# Altium schematic symbol library Intelligent_Agriculture_1.SCHLIB: 23 symbols
Pins are listed as number, name and electrical type; pins without a type are passive.

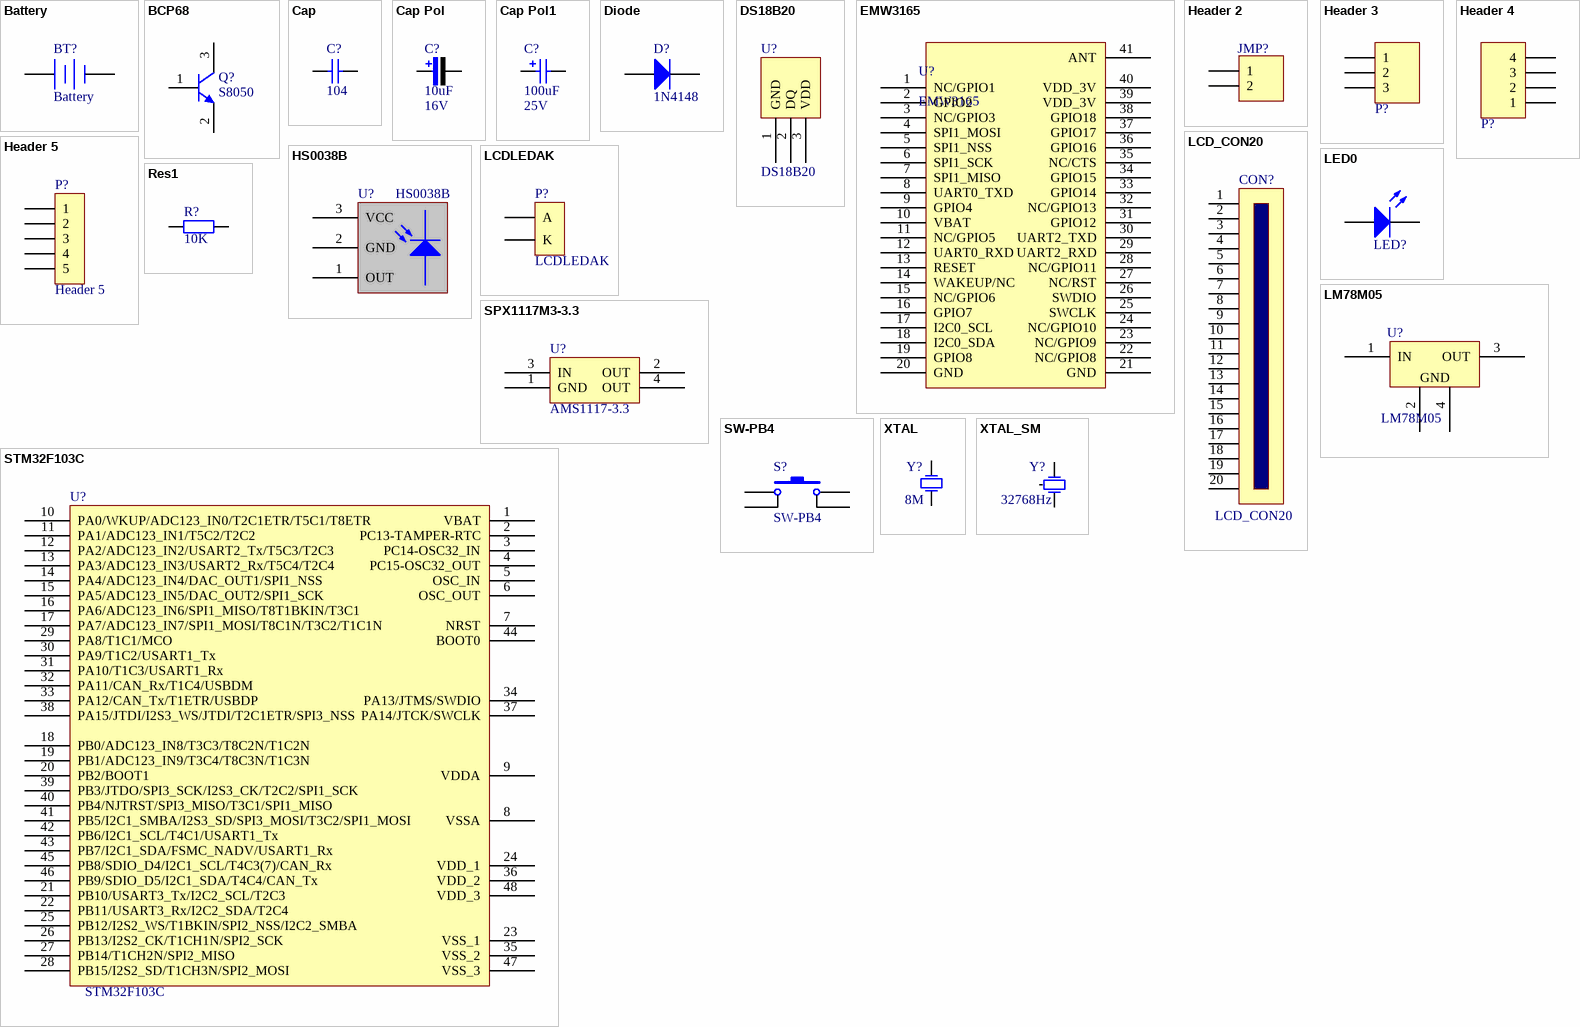
[diagram p0: symbols Battery to XTAL_SM]

## Battery
designator BT?
备份电池; Value: CR1220电池座(贴片); Published: 24-Mar-1999; LatestRevisionDate: 17-Jul-2002; LatestRevisionNote: Re-released for DXP Platform.; PackageReference: BAT-2; Publisher: Altium Limited
footprint CR1220 (钮扣电池)
pins: 1 +, 2 -

## BCP68
designator Q?, comment S8050
NPN三极管; Published: 17-Sep-2003; LatestRevisionDate: 12-Dec-2006; LatestRevisionNote: IPC-7351 Footprint Added.; DatasheetVersion: 8-Apr-1999; PackageVersion: Aug-2001; PackageReference: SOT223; Publisher: Altium Limited; PackageDescription: 4-Pin SOT-223 Package 2.3 mm Pitch, 7 mm Lead Span; ComponentLink1Description: Manufacturer Link; ComponentLink1URL: http://www.semiconductors.philips.com/; ComponentLink2Description: Datasheet; ComponentLink2URL: http://www.semiconductors.philips.com/acrobat/datasheets/BCP68_4.pdf; Value: S8050
footprint SOT-23 (普通?)
pins: 1 B, 2 E, 3 C

## Cap
designator C?  value 104  (hidden comment: Cap)
无极性电容; Published: 8-Jun-2000; LatestRevisionDate: 17-Jul-2002; LatestRevisionNote: Re-released for DXP Platform.; PackageReference: RAD-0.3; Publisher: Altium Limited
footprint C-RAD (瓷片电容)
footprint C-RAD-0805 (贴片电容)
footprint C-RAD-0603 (贴片电容)
footprint 0603-2 (贴片无丝印)
footprint 0805-2 (贴片无丝印)
footprint C-RAD-3528 (贴片电容)
pins: 1, 2

## Cap Pol
designator C?  value 10uF  Vol: 16V  (hidden comment: Cap Pol)
钽电容; Published: 8-Jun-2000; LatestRevisionDate: 17-Jul-2002; LatestRevisionNote: Re-released for DXP Platform.; PackageReference: RB7.6-15; Publisher: Altium Limited
footprint CAP-7343 (钽电容)
footprint CAP-3528 (钽电容)
footprint CAP-3216 (钽电容)
footprint C-RB-S10 (贴片电解)
footprint C-RB-S6 (贴片电解)
footprint CAP-6032 (钽电容)
footprint C-RB-10 (35V470uF电容)
footprint C-RB-18 (35V2200uF电容)
footprint C-RB-8 (35V 220UF电容)
footprint C-RB-12 (35V470uF电容)
footprint C-RB-S8 (贴片电解)
pins: 1, 2
1 alternate drawing of the same symbol

## Cap Pol1
designator C?  value 100uF  Vol: 25V  (hidden comment: Cap Pol1)
电解电容; Published: 8-Jun-2000; LatestRevisionDate: 17-Jul-2002; LatestRevisionNote: Re-released for DXP Platform.; PackageReference: RB7.6-15; Publisher: Altium Limited; PackageDescription: Polarized Capacitor (Radial); 2 Leads
footprint RB7.6-15 (Polarized Capacitor (Radial); 2 Leads)
footprint C-RB-2.54
pins: 1, 2
1 alternate drawing of the same symbol

## Diode
designator D?  value 1N4148  (hidden comment: Diode)
二极管; Published: 8-Jun-2000; LatestRevisionDate: 17-Jul-2002; LatestRevisionNote: Re-released for DXP Platform.; PackageDocument: Sep-1996; PackageReference: SMC; Publisher: Altium Limited; Code_JEDEC: DO-214-AB
footprint DIODE-AXL (直插二极管)
footprint DIODE-1206 (玻璃封装二极管)
footprint DIODE-SMA (贴片二)
pins: 1 A, 2 K

## DS18B20
designator U?
温度传感器; Value: DS18B20
footprint TO-92A (直插三极管)
footprint HDR3X1_A (Connector; Header; 3 Position)
footprint HDR3X1_B1 (Connector; Header; 3 Position)
pins: 1 GND, 2 DQ, 3 VDD

## EMW3165
designator U?
WIFI 模块
footprint EMW3165 (EMW365 wifi 模块)
pins: 1 NC/GPIO1, 2 GPIO2, 3 NC/GPIO3, 4 SPI1_MOSI, 5 SPI1_NSS, 6 SPI1_SCK, 7 SPI1_MISO, 8 UART0_TXD, 9 GPIO4, 10 VBAT, 11 NC/GPIO5, 12 UART0_RXD, 13 RESET, 14 WAKEUP/NC, 15 NC/GPIO6, 16 GPIO7, 17 I2C0_SCL, 18 I2C0_SDA, 19 GPIO8, 20 GND, 21 GND, 22 NC/GPIO8, 23 NC/GPIO9, 24 NC/GPIO10, 25 SWCLK, 26 SWDIO, 27 NC/RST, 28 NC/GPIO11, 29 UART2_RXD, 30 UART2_TXD, 31 GPIO12, 32 NC/GPIO13, 33 GPIO14, 34 GPIO15, 35 NC/CTS, 36 GPIO16, 37 GPIO17, 38 GPIO18, 39 VDD_3V, 40 VDD_3V, 41 ANT

## Header 2
designator JMP?  (value not drawn)
接插件; Value: 排针; LatestRevisionDate: 17-Jul-2002; LatestRevisionNote: Re-released for DXP Platform.; Publisher: Altium Limited
footprint HDR2X1_C (3.81接插件)
footprint HDR2X1_D1 (5.08mm端)
footprint HDR2X1_A (Connector; Header; 2 Position)
footprint HDR2X1_B2 (Connector; Header; 4 Position)
footprint HDR2X1_B1 (Connector; Header; 4 Position)
footprint HDR2X1_D2 (Connector; Header; 4 Position)
pins: 1, 2

## Header 3
designator P?  (value not drawn)
接插件; Value: 排针; LatestRevisionDate: 17-Jul-2002; LatestRevisionNote: Re-released for DXP Platform.; Publisher: Altium Limited
footprint HDR3X1_B1 (Connector; Header; 3 Position)
footprint HDR3X1_A (Connector; Header; 3 Position)
footprint HDR3X1_C (3.81MM接插件)
footprint HDR3X1_D1 (5.08mm端子)
footprint HDR3X1_D2 (5.08mm端子)
footprint HDR3X1_B2 (Connector; Header; 3 Position)
footprint HDR3X1_B4 (Connector; Header; 4 Position)
pins: 1, 2, 3

## Header 4
designator P?  (value not drawn)
接插件; Value: XH2.54-4P; LatestRevisionDate: 17-Jul-2002; LatestRevisionNote: Re-released for DXP Platform.; Publisher: Altium Limited
footprint HDR4X1_A (Connector; Header; 4 Position)
footprint HDR4X1_B1 (Connector; Header; 4 Position)
footprint HDR4X1_B2 (Connector; Header; 4 Position)
footprint HDR4X1_F
footprint HDR4X1_C (3.81MM接插件)
pins: 1, 2, 3, 4

## Header 5
designator P?
接插件; Value: 排针; LatestRevisionDate: 17-Jul-2002; LatestRevisionNote: Re-released for DXP Platform.; Publisher: Altium Limited
footprint HDR5_A1 (Connector; Header; 5x1 Position)
pins: 1, 2, 3, 4, 5

## HS0038B
designator U?
红外接收器; Value: HS0038B
footprint HS0038B (红外接收头)
pins: 1 OUT, 2 GND, 3 VCC

## LCD_CON20
designator CON?
LCD接插件; Value: FPC0.5-20P 下接触
footprint FPC0.5-20P-A
pins: 1, 2, 3, 4, 5, 6, 7, 8, 9, 10, 11, 12, 13, 14, 15, 16, 17, 18, 19, 20

## LCDLEDAK
designator P?
LCD12864框架; Value: LCD_JLX12864G-1504
footprint LCD_JLX12864G-1504
pins: 1 A, 2 K

## LED0
designator LED?  (value not drawn)
发光二极管; Value: LED高亮红3mm; Published: 8-Jun-2000; LatestRevisionDate: 08-Jul-2005; LatestRevisionNote: Mech Layer 1 removed.; PackageReference: LED-0; Publisher: Altium Limited
footprint LED_A1 (直径3MM发?)
footprint LED_0805 (贴片二?)
footprint LED_A2 (直径3MM?)
footprint LED-3528 (贴片二极管)
pins: 1 A, 2 K

## LM78M05
designator U?
5V稳压芯片; Value: LM78M05
footprint TO-252
pins: 1 IN (power), 2 GND (power), 3 OUT (power), 4 GND (power)

## Res1
designator R?  value 10K  (hidden comment: Res1)
贴片电阻; Published: 8-Jun-2000; LatestRevisionDate: 17-Jul-2002; LatestRevisionNote: Re-released for DXP Platform.; PackageReference: AXIAL-0.4; Publisher: Altium Limited
footprint 0805-1 (贴片带丝印)
footprint 0805-2 (贴片无丝印)
footprint 0603-1 (贴片带丝印)
footprint 1210 (贴片元件)
footprint AXIAL-0.8 (Semiconductor Resistor; 2 Leads)
footprint 2010 (贴片电阻)
footprint 0603-2 (贴片无丝印)
footprint 1206
footprint 2512 (保险丝)
footprint 1812 (保险丝)
footprint AXIAL-0.9 (插件电阻)
pins: 1, 2

## SPX1117M3-3.3
designator U?, comment AMS1117-3.3
3.3V稳压芯片; Value: AMS1117-3.3
footprint SOT-223 (ASM1117 -3.3V)
pins: 1 GND, 2 OUT, 3 IN, 4 OUT

## STM32F103C
designator U?
STM32单片机48引脚; Value: STM32F103C8T6
footprint LQFP-48_M (Thin QFP, 48-Leads, Body 7x7mm, Pitch 0.5mm, IPC Low Density)
pins: 1 VBAT, 2 PC13-TAMPER-RTC, 3 PC14-OSC32_IN, 4 PC15-OSC32_OUT, 5 OSC_IN, 6 OSC_OUT, 7 NRST, 8 VSSA, 9 VDDA, 10 PA0/WKUP/ADC123_IN0/T2C1ETR/T5C1/T8ETR, 11 PA1/ADC123_IN1/T5C2/T2C2, 12 PA2/ADC123_IN2/USART2_Tx/T5C3/T2C3, 13 PA3/ADC123_IN3/USART2_Rx/T5C4/T2C4, 14 PA4/ADC123_IN4/DAC_OUT1/SPI1_NSS, 15 PA5/ADC123_IN5/DAC_OUT2/SPI1_SCK, 16 PA6/ADC123_IN6/SPI1_MISO/T8T1BKIN/T3C1, 17 PA7/ADC123_IN7/SPI1_MOSI/T8C1N/T3C2/T1C1N, 18 PB0/ADC123_IN8/T3C3/T8C2N/T1C2N, 19 PB1/ADC123_IN9/T3C4/T8C3N/T1C3N, 20 PB2/BOOT1, 21 PB10/USART3_Tx/I2C2_SCL/T2C3, 22 PB11/USART3_Rx/I2C2_SDA/T2C4, 23 VSS_1, 24 VDD_1, 25 PB12/I2S2_WS/T1BKIN/SPI2_NSS/I2C2_SMBA, 26 PB13/I2S2_CK/T1CH1N/SPI2_SCK, 27 PB14/T1CH2N/SPI2_MISO, 28 PB15/I2S2_SD/T1CH3N/SPI2_MOSI, 29 PA8/T1C1/MCO, 30 PA9/T1C2/USART1_Tx, 31 PA10/T1C3/USART1_Rx, 32 PA11/CAN_Rx/T1C4/USBDM, 33 PA12/CAN_Tx/T1ETR/USBDP, 34 PA13/JTMS/SWDIO, 35 VSS_2, 36 VDD_2, 37 PA14/JTCK/SWCLK, 38 PA15/JTDI/I2S3_WS/JTDI/T2C1ETR/SPI3_NSS, 39 PB3/JTDO/SPI3_SCK/I2S3_CK/T2C2/SPI1_SCK, 40 PB4/NJTRST/SPI3_MISO/T3C1/SPI1_MISO, 41 PB5/I2C1_SMBA/I2S3_SD/SPI3_MOSI/T3C2/SPI1_MOSI, 42 PB6/I2C1_SCL/T4C1/USART1_Tx, 43 PB7/I2C1_SDA/FSMC_NADV/USART1_Rx, 44 BOOT0, 45 PB8/SDIO_D4/I2C1_SCL/T4C3(7)/CAN_Rx, 46 PB9/SDIO_D5/I2C1_SDA/T4C4/CAN_Tx, 47 VSS_3, 48 VDD_3

## SW-PB4
designator S?
微动开关; Value: 6*6*5mm; Published: 24-Mar-1999; LatestRevisionDate: 17-Jul-2002; LatestRevisionNote: Re-released for DXP Platform.; PackageReference: SPST-2; Publisher: Altium Limited; Value: Value
footprint SW_PB4_A1
footprint SW_PB4_B1
pins: 1, 2, 3, 4

## XTAL
designator Y?  value 8M  (hidden comment: XTAL)
晶振; Published: 8-Jun-2000; LatestRevisionDate: 17-Jul-2002; LatestRevisionNote: Re-released for DXP Platform.; PackageReference: R38; Publisher: Altium Limited
footprint X-HC49U (插件晶振)
footprint X-SM49
pins: 1 OSC1, 2 OSC2

## XTAL_SM
designator Y?  value 32768Hz  (hidden comment: XTAL_SM)
圆柱晶振; Published: 8-Jun-2000; LatestRevisionDate: 17-Jul-2002; LatestRevisionNote: Re-released for DXP Platform.; PackageReference: R38; Publisher: Altium Limited
footprint X-TC15 (圆柱晶振1)
footprint X-TC26 (圆柱晶振2)
footprint X-TC15_B (圆柱晶振1孔)
pins: 1 OSC1, 2 OSC2, 3